# EAGLE library part STM32F42XITX (library fe501_eagle_lib)
STM32F42xIxTx
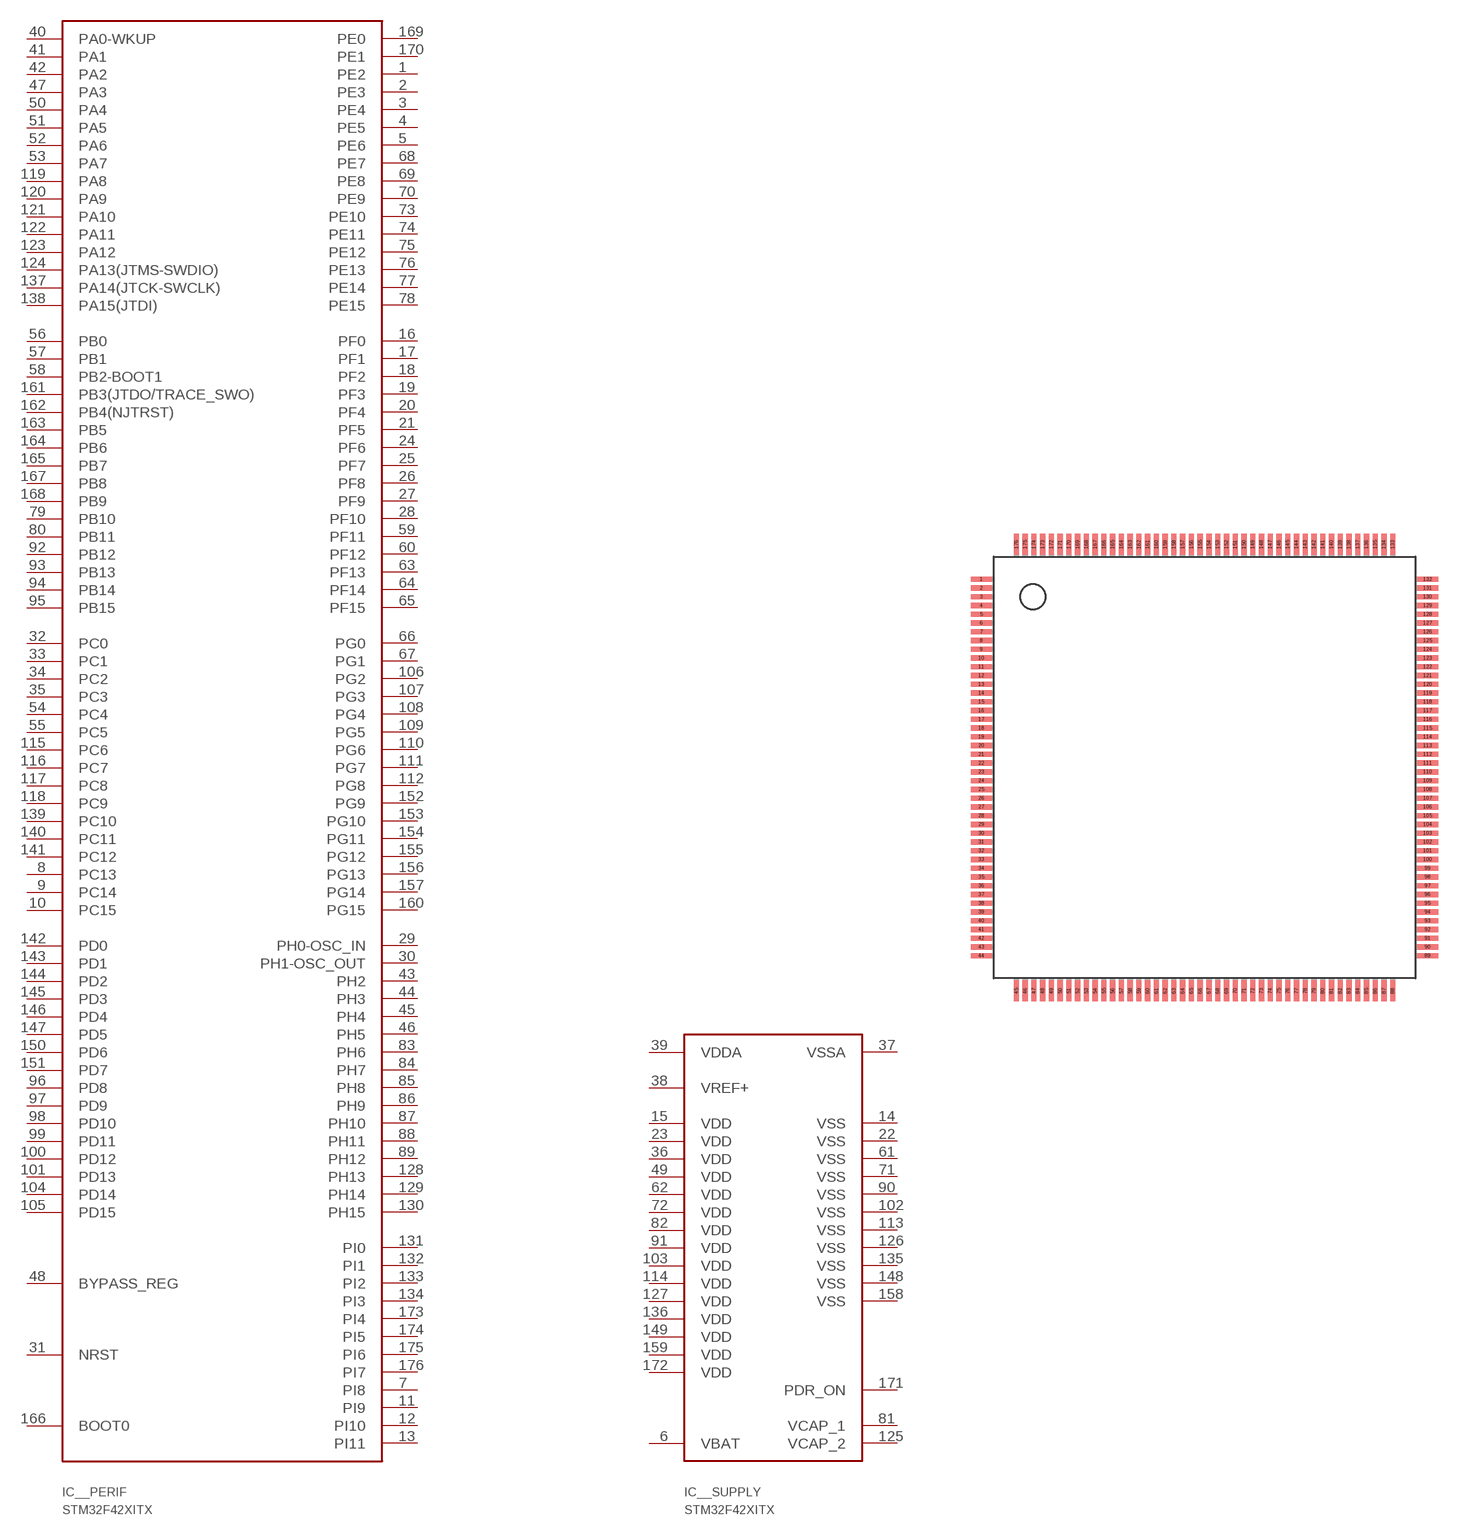
[diagram p1: symbol with the pads of LQFP176; footprint LQFP176]

Designator prefix IC; gates __SUPPLY=STM32F4XIXTX_SUPPLY __PERIF=STM32F42XIXTX_PERIF

## STM32F42XITX  [LQFP176]
1  __PERIF:PE2
2  __PERIF:PE3
3  __PERIF:PE4
4  __PERIF:PE5
5  __PERIF:PE6
6  __SUPPLY:VBAT  pwr
7  __PERIF:PI8
8  __PERIF:PC13
9  __PERIF:PC14
10  __PERIF:PC15
11  __PERIF:PI9
12  __PERIF:PI10
13  __PERIF:PI11
14  __SUPPLY:VSS  pwr
15  __SUPPLY:VDD  pwr
16  __PERIF:PF0
17  __PERIF:PF1
18  __PERIF:PF2
19  __PERIF:PF3
20  __PERIF:PF4
21  __PERIF:PF5
22  __SUPPLY:VSS  pwr
23  __SUPPLY:VDD  pwr
24  __PERIF:PF6
25  __PERIF:PF7
26  __PERIF:PF8
27  __PERIF:PF9
28  __PERIF:PF10
29  __PERIF:PH0-OSC_IN
30  __PERIF:PH1-OSC_OUT
31  __PERIF:NRST
32  __PERIF:PC0
33  __PERIF:PC1
34  __PERIF:PC2
35  __PERIF:PC3
36  __SUPPLY:VDD  pwr
37  __SUPPLY:VSSA  pwr
38  __SUPPLY:VREF+  pwr
39  __SUPPLY:VDDA  pwr
40  __PERIF:PA0-WKUP
41  __PERIF:PA1
42  __PERIF:PA2
43  __PERIF:PH2
44  __PERIF:PH3
45  __PERIF:PH4
46  __PERIF:PH5
47  __PERIF:PA3
48  __PERIF:BYPASS_REG
49  __SUPPLY:VDD  pwr
50  __PERIF:PA4
51  __PERIF:PA5
52  __PERIF:PA6
53  __PERIF:PA7
54  __PERIF:PC4
55  __PERIF:PC5
56  __PERIF:PB0
57  __PERIF:PB1
58  __PERIF:PB2-BOOT1
59  __PERIF:PF11
60  __PERIF:PF12
61  __SUPPLY:VSS  pwr
62  __SUPPLY:VDD  pwr
63  __PERIF:PF13
64  __PERIF:PF14
65  __PERIF:PF15
66  __PERIF:PG0
67  __PERIF:PG1
68  __PERIF:PE7
69  __PERIF:PE8
70  __PERIF:PE9
71  __SUPPLY:VSS  pwr
72  __SUPPLY:VDD  pwr
73  __PERIF:PE10
74  __PERIF:PE11
75  __PERIF:PE12
76  __PERIF:PE13
77  __PERIF:PE14
78  __PERIF:PE15
79  __PERIF:PB10
80  __PERIF:PB11
81  __SUPPLY:VCAP_1  pwr
82  __SUPPLY:VDD  pwr
83  __PERIF:PH6
84  __PERIF:PH7
85  __PERIF:PH8
86  __PERIF:PH9
87  __PERIF:PH10
88  __PERIF:PH11
89  __PERIF:PH12
90  __SUPPLY:VSS  pwr
91  __SUPPLY:VDD  pwr
92  __PERIF:PB12
93  __PERIF:PB13
94  __PERIF:PB14
95  __PERIF:PB15
96  __PERIF:PD8
97  __PERIF:PD9
98  __PERIF:PD10
99  __PERIF:PD11
100  __PERIF:PD12
101  __PERIF:PD13
102  __SUPPLY:VSS  pwr
103  __SUPPLY:VDD  pwr
104  __PERIF:PD14
105  __PERIF:PD15
106  __PERIF:PG2
107  __PERIF:PG3
108  __PERIF:PG4
109  __PERIF:PG5
110  __PERIF:PG6
111  __PERIF:PG7
112  __PERIF:PG8
113  __SUPPLY:VSS  pwr
114  __SUPPLY:VDD  pwr
115  __PERIF:PC6
116  __PERIF:PC7
117  __PERIF:PC8
118  __PERIF:PC9
119  __PERIF:PA8
120  __PERIF:PA9
121  __PERIF:PA10
122  __PERIF:PA11
123  __PERIF:PA12
124  __PERIF:PA13(JTMS-SWDIO)
125  __SUPPLY:VCAP_2  pwr
126  __SUPPLY:VSS  pwr
127  __SUPPLY:VDD  pwr
128  __PERIF:PH13
129  __PERIF:PH14
130  __PERIF:PH15
131  __PERIF:PI0
132  __PERIF:PI1
133  __PERIF:PI2
134  __PERIF:PI3
135  __SUPPLY:VSS  pwr
136  __SUPPLY:VDD  pwr
137  __PERIF:PA14(JTCK-SWCLK)
138  __PERIF:PA15(JTDI)
139  __PERIF:PC10
140  __PERIF:PC11
141  __PERIF:PC12
142  __PERIF:PD0
143  __PERIF:PD1
144  __PERIF:PD2
145  __PERIF:PD3
146  __PERIF:PD4
147  __PERIF:PD5
148  __SUPPLY:VSS  pwr
149  __SUPPLY:VDD  pwr
150  __PERIF:PD6
151  __PERIF:PD7
152  __PERIF:PG9
153  __PERIF:PG10
154  __PERIF:PG11
155  __PERIF:PG12
156  __PERIF:PG13
157  __PERIF:PG14
158  __SUPPLY:VSS  pwr
159  __SUPPLY:VDD  pwr
160  __PERIF:PG15
161  __PERIF:PB3(JTDO/TRACE_SWO)
162  __PERIF:PB4(NJTRST)
163  __PERIF:PB5
164  __PERIF:PB6
165  __PERIF:PB7
166  __PERIF:BOOT0
167  __PERIF:PB8
168  __PERIF:PB9
169  __PERIF:PE0
170  __PERIF:PE1
171  __SUPPLY:PDR_ON  pwr
172  __SUPPLY:VDD  pwr
173  __PERIF:PI4
174  __PERIF:PI5
175  __PERIF:PI6
176  __PERIF:PI7

## Footprint LQFP176 (pad centres in mm)
LQFP176 Package
smd 1.2 x 0.3: 1 -12.91,10.79; 2 -12.91,10.29; 3 -12.91,9.79; 4 -12.91,9.29; 5 -12.91,8.79; 6 -12.91,8.29; 7 -12.91,7.79; 8 -12.91,7.29; 9 -12.91,6.79; 10 -12.91,6.29; 11 -12.91,5.79; 12 -12.91,5.29; 13 -12.91,4.79; 14 -12.91,4.29; 15 -12.91,3.79; 16 -12.91,3.29; 17 -12.91,2.79; 18 -12.91,2.29; 19 -12.91,1.79; 20 -12.91,1.29; 21 -12.91,0.79; 22 -12.91,0.29; 23 -12.91,-0.21; 24 -12.91,-0.71; 25 -12.91,-1.21; 26 -12.91,-1.71; 27 -12.91,-2.21; 28 -12.91,-2.71; 29 -12.91,-3.21; 30 -12.91,-3.71; 31 -12.91,-4.21; 32 -12.91,-4.71; 33 -12.91,-5.21; 34 -12.91,-5.71; 35 -12.91,-6.21; 36 -12.91,-6.71; 37 -12.91,-7.21; 38 -12.91,-7.71; 39 -12.91,-8.21; 40 -12.91,-8.71; 41 -12.91,-9.21; 42 -12.91,-9.71; 43 -12.91,-10.21; 44 -12.91,-10.71; 89 12.59,-10.71; 90 12.59,-10.21; 91 12.59,-9.71; 92 12.59,-9.21; 93 12.59,-8.71; 94 12.59,-8.21; 95 12.59,-7.71; 96 12.59,-7.21; 97 12.59,-6.71; 98 12.59,-6.21; 99 12.59,-5.71; 100 12.59,-5.21; 101 12.59,-4.71; 102 12.59,-4.21; 103 12.59,-3.71; 104 12.59,-3.21; 105 12.59,-2.71; 106 12.59,-2.21; 107 12.59,-1.71; 108 12.59,-1.21; 109 12.59,-0.71; 110 12.59,-0.21; 111 12.59,0.29; 112 12.59,0.79; 113 12.59,1.29; 114 12.59,1.79; 115 12.59,2.29; 116 12.59,2.79; 117 12.59,3.29; 118 12.59,3.79; 119 12.59,4.29; 120 12.59,4.79; 121 12.59,5.29; 122 12.59,5.79; 123 12.59,6.29; 124 12.59,6.79; 125 12.59,7.29; 126 12.59,7.79; 127 12.59,8.29; 128 12.59,8.79; 129 12.59,9.29; 130 12.59,9.79; 131 12.59,10.29; 132 12.59,10.79
smd 0.3 x 1.2: 45 -10.91,-12.71; 46 -10.41,-12.71; 47 -9.91,-12.71; 48 -9.41,-12.71; 49 -8.91,-12.71; 50 -8.41,-12.71; 51 -7.91,-12.71; 52 -7.41,-12.71; 53 -6.91,-12.71; 54 -6.41,-12.71; 55 -5.91,-12.71; 56 -5.41,-12.71; 57 -4.91,-12.71; 58 -4.41,-12.71; 59 -3.91,-12.71; 60 -3.41,-12.71; 61 -2.91,-12.71; 62 -2.41,-12.71; 63 -1.91,-12.71; 64 -1.41,-12.71; 65 -0.91,-12.71; 66 -0.41,-12.71; 67 0.09,-12.71; 68 0.59,-12.71; 69 1.09,-12.71; 70 1.59,-12.71; 71 2.09,-12.71; 72 2.59,-12.71; 73 3.09,-12.71; 74 3.59,-12.71; 75 4.09,-12.71; 76 4.59,-12.71; 77 5.09,-12.71; 78 5.59,-12.71; 79 6.09,-12.71; 80 6.59,-12.71; 81 7.09,-12.71; 82 7.59,-12.71; 83 8.09,-12.71; 84 8.59,-12.71; 85 9.09,-12.71; 86 9.59,-12.71; 87 10.09,-12.71; 88 10.59,-12.71; 133 10.59,12.79; 134 10.09,12.79; 135 9.59,12.79; 136 9.09,12.79; 137 8.59,12.79; 138 8.09,12.79; 139 7.59,12.79; 140 7.09,12.79; 141 6.59,12.79; 142 6.09,12.79; 143 5.59,12.79; 144 5.09,12.79; 145 4.59,12.79; 146 4.09,12.79; 147 3.59,12.79; 148 3.09,12.79; 149 2.59,12.79; 150 2.09,12.79; 151 1.59,12.79; 152 1.09,12.79; 153 0.59,12.79; 154 0.09,12.79; 155 -0.41,12.79; 156 -0.91,12.79; 157 -1.41,12.79; 158 -1.91,12.79; 159 -2.41,12.79; 160 -2.91,12.79; 161 -3.41,12.79; 162 -3.91,12.79; 163 -4.41,12.79; 164 -4.91,12.79; 165 -5.41,12.79; 166 -5.91,12.79; 167 -6.41,12.79; 168 -6.91,12.79; 169 -7.41,12.79; 170 -7.91,12.79; 171 -8.41,12.79; 172 -8.91,12.79; 173 -9.41,12.79; 174 -9.91,12.79; 175 -10.41,12.79; 176 -10.91,12.79